# EAGLE library part SR6B6K24 (library Relay)
RELAY SAFETY 6PST 8A 24V Manufacturer's datasheet <https://www.te.com/commerce/DocumentDelivery/DDEController?Action=srchrtrv&DocNm=SR6&DocType=DS&DocLang=English>
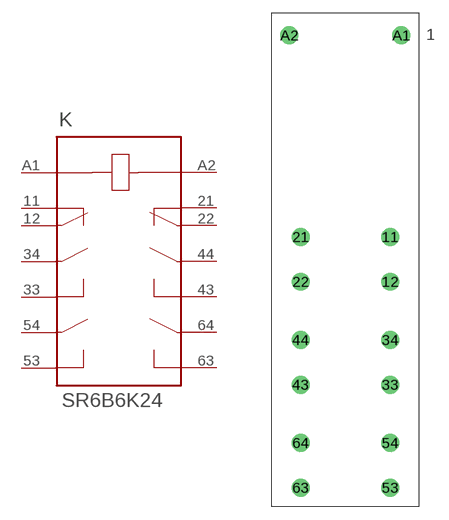
[diagram p8: symbol with the pads of SR6B6K24; footprint SR6B6K24]

Designator prefix K

## SR6B6K24 (CREATED_BY: PCBLayout.com; DIGIKEY_PN: PB1313-ND; MANUFACTURER: TE Connectivity Potter & Brumfield Relays; MPN: SR6B6K24)  [SR6B6K24]
11  11  pas
12  12  pas
21  21  pas
22  22  pas
33  33  pas
34  34  pas
43  43  pas
44  44  pas
53  53  pas
54  54  pas
63  63  pas
64  64  pas
A1  A1  pas
A2  A2  pas

## Footprint SR6B6K24 (pad centres in mm)
drill 1.3 pad 2: 11 5,2.55; 12 5,-2.45; 21 -5,2.55; 22 -5,-2.45; 33 5,-13.95; 34 5,-8.95; 43 -5,-13.95; 44 -5,-8.95; 53 5.004,-25.45; 54 5,-20.45; 63 -5,-25.45; 64 -5,-20.45; A1 6.25,25.05; A2 -6.25,25.05